# Altium footprint library USB-A-S-RA-SMT.PcbLib: 1 footprints
Each footprint in its own frame and in the unit in brackets; x right, y up, seen from the top. Pads: shape width x height; smd on the part's side, far side on the other; paste and mask are expansions set on the pad; w line width, h text height; cw(c..) or ccw(c..) is an arc to the next point about the centre after c.
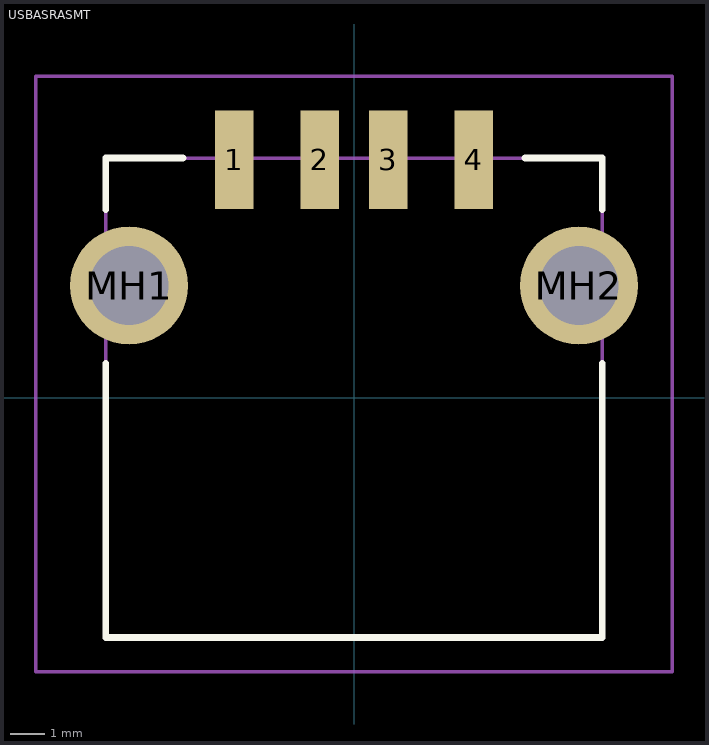
[diagram p0: the footprint, top view; thin cyan lines are the x and y axes]

## USBASRASMT [mm]
pads (6):
  rect 1.12x2.88 smd: 1(-3.5,6.95) 2(-1,6.95) 3(1,6.95) 4(3.5,6.95)
  round 3.45 hole 2.3: MH1(-6.57,3.28) MH2(6.57,3.28)
Top Overlay:
  lines w0.2: -7.25,1 -7.25,-7 7.25,-7 7.25,1 ; -7.25,5.5 -7.25,7 -5,7 ; 5,7 7.25,7 7.25,5.5
Mechanical 13:
  lines w0.1: -7.25,-7 7.25,-7 7.25,7 -7.25,7 -7.25,-7
Mechanical 15:
  lines w0.1: -9.295,-8 9.295,-8 9.295,9.39 -9.295,9.39 -9.295,-8
3D body "USB-A-S-RA-SMT.stp": height 7.59, standoff -5, extent -7.62,-7 7.62,8.278